# EAGLE library part MICROSD_PP (library dipmicro)
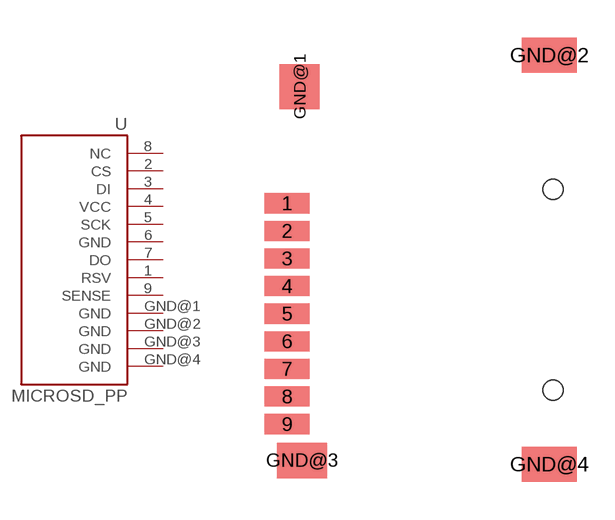
[diagram p0: symbol with the pads of MICROSD_PP; footprint MICROSD_PP]

Designator prefix -

## MICROSD_PP  [MICROSD_PP]
1  RSV
2  CS
3  DI
4  VCC
5  SCK
6  GND
7  DO
8  NC
9  SENSE
GND@1  GND
GND@2  GND
GND@3  GND
GND@4  GND

## Footprint MICROSD_PP (pad centres in mm)
smd 1.8 x 0.8: 1 0,3.85; 2 0,2.75; 3 0,1.65; 4 0,0.55; 5 0,-0.55; 6 0,-1.65; 7 0,-2.75; 8 0,-3.85; 9 0,-4.95
smd 1.6 x 1.8: GND@1 0.5,8.5
smd 2.2 x 1.4: GND@2 10.45,9.75; GND@4 10.45,-6.55
smd 2 x 1.4: GND@3 0.6,-6.4
hole 0.8 at 10.6,4.4
hole 0.8 at 10.6,-3.6